# Altium footprint library OSC-SPE-3EQHM57.PcbLib: 1 footprints
Each footprint in its own frame and in the unit in brackets; x right, y up, seen from the top. Pads: shape width x height; smd on the part's side, far side on the other; paste and mask are expansions set on the pad; w line width, h text height; cw(c..) or ccw(c..) is an arc to the next point about the centre after c.
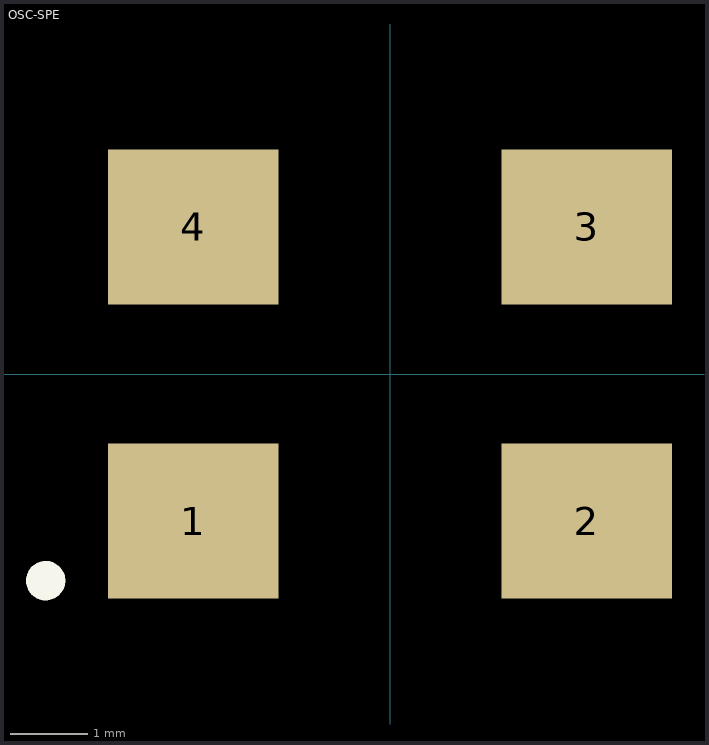
[diagram p0: the footprint, top view; thin cyan lines are the x and y axes]

## OSC-SPE [mm]
pads (4):
  rect 2.2x2 smd: 1(-2.54,-1.9) 2(2.54,-1.9) 3(2.54,1.9) 4(-2.54,1.9)
Top Overlay:
  circle w0.254: c-4.445,-2.667 r0.127
3D body: height 1, standoff 0, extent -3.683,-2.54 3.683,2.54